# EAGLE library part LT1011CN8#PBF (library LT1011CN8#PBF)
Linear Technology LT1011CN8#PBF Comparator, Open Collector O/P, 0.15us 30 V 8-Pin PDIP Source: Datasheet <http://www.linear.com/docs/2476>
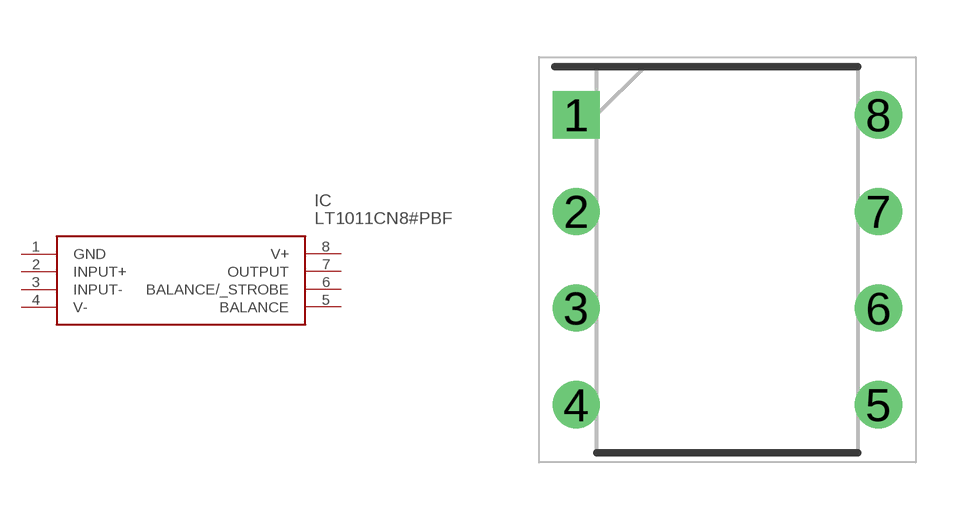
[diagram p0: symbol with the pads of DIP794W53P254L1016H394Q8N; footprint DIP794W53P254L1016H394Q8N]

Designator prefix IC

## LT1011CN8#PBF (Description: Linear Technology LT1011CN8#PBF Comparator, Open Collector O/P, 0.15us 30 V 8-Pin PDIP; Height: 3.937mm; Manufacturer_Name: Analog Devices; Manufacturer_Part_Number: LT1011CN8#PBF; Mouser_Part_Number: 584-LT1011CN8#PBF; Mouser_Price-Stock: https://www.mouser.co.uk/ProductDetail/Analog-Devices/LT1011CN8PBF?qs=ytflclh7QUWFs7XG0lj57g%3D%3D)  [DIP794W53P254L1016H394Q8N]
1  GND
2  INPUT+
3  INPUT-
4  V-
5  BALANCE
6  BALANCE/_STROBE
7  OUTPUT
8  V+

## Footprint DIP794W53P254L1016H394Q8N (pad centres in mm)
N Package 8-Lead PDIP (Narrow .300 Inch)
drill 0.733 pad 1.133 square: 1 -3.969,3.81
drill 0.733 pad 1.133: 2 -3.969,1.27; 3 -3.969,-1.27; 4 -3.969,-3.81; 5 3.969,-3.81; 6 3.969,-1.27; 7 3.969,1.27; 8 3.969,3.81